# Altium schematic symbol library DESD5V0U1BA-7.SchLib: 1 symbol
Pins are listed as number, name and electrical type; pins without a type are passive.

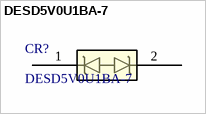
[diagram p0: symbol DESD5V0U1BA-7]

## DESD5V0U1BA-7
designator CR?
Description; Manufacturer_Name: Diodes Inc; Copyright: Copyright (C) 2025 Ultra Librarian. All rights reserved.; Manufacturer_Part_Number: DESD5V0U1BA-7; RefDes: RefDes; Type: Type
footprint SOD323-L_DIO
pins: 1, 2